# Altium schematic symbol library GY9250.SchLib: 1 symbol
Pins are listed as number, name and electrical type; pins without a type are passive.

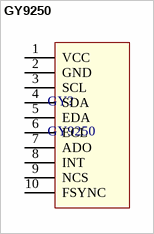
[diagram p0: symbol GY9250]

## GY9250
designator GY?
footprint GY9250
pins: 1 VCC, 2 GND, 3 SCL, 4 SDA, 5 EDA, 6 ECL, 7 ADO, 8 INT, 9 NCS, 10 FSYNC